# Altium schematic symbol library AP2281.SchLib: 1 symbol
Pins are listed as number, name and electrical type; pins without a type are passive.

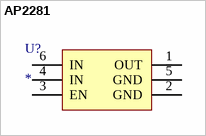
[diagram p0: symbol AP2281]

## AP2281
designator U?
Value: *
pins: 1 OUT, 2 GND, 3 EN, 4 IN, 5 GND, 6 IN